# Altium footprint library PcbLib.PcbLib: 25 footprints (part 2 of 2)
Each footprint in its own frame and in the unit in brackets; x right, y up, seen from the top. Pads: shape width x height; smd on the part's side, far side on the other; paste and mask are expansions set on the pad; w line width, h text height; cw(c..) or ccw(c..) is an arc to the next point about the centre after c.
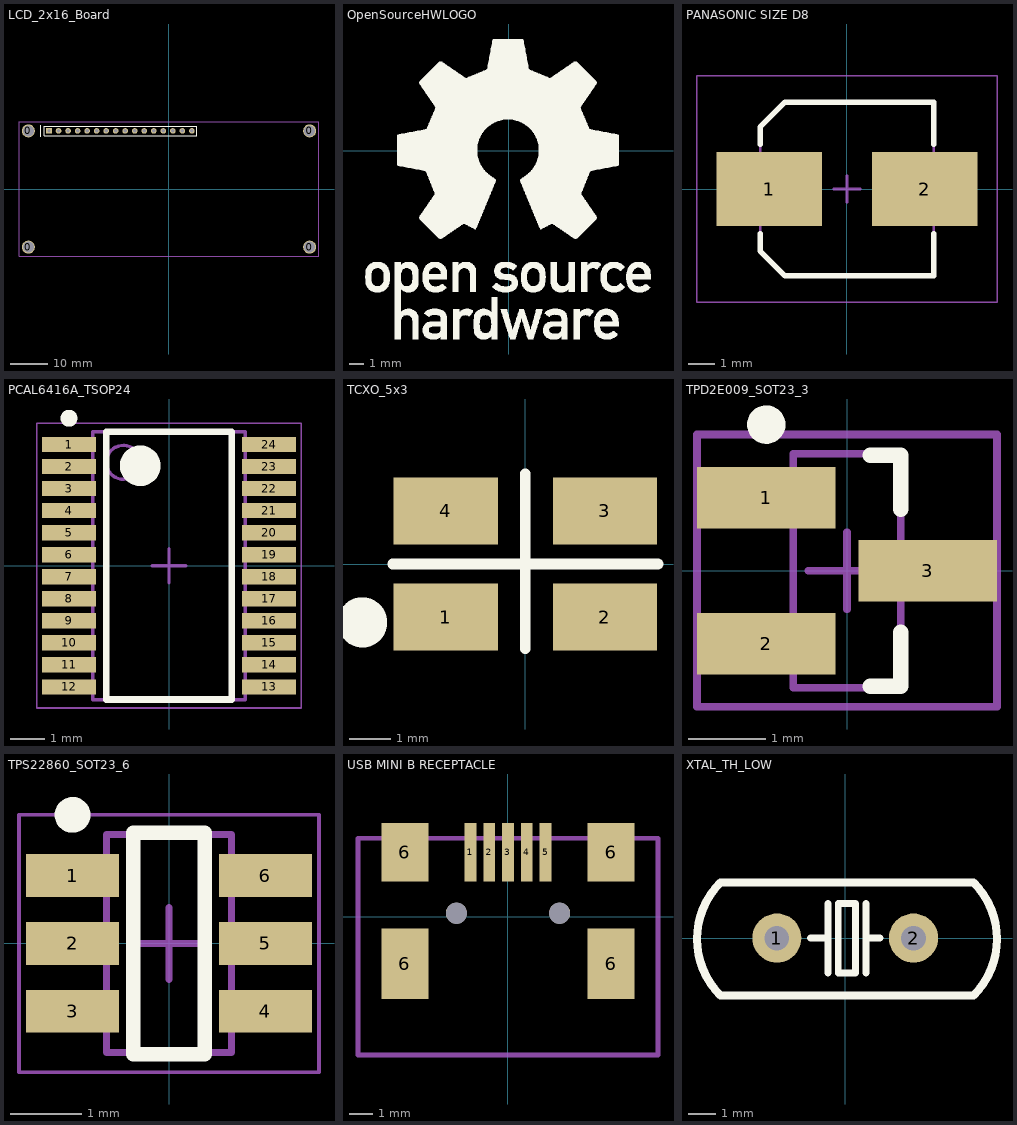
[diagram p1: the footprints below, top view; thin cyan lines are the x and y axes]

## LCD_2x16_Board [mm] "2X16 LCD PCB"
height 12
pads (20):
  round 3.5 hole 2.9: 0(-37.5,-15.5) 0(-37.5,15.5) 0(37.5,-15.5) 0(37.5,15.5)
  rect 1.5x1.5 hole 0.9: 1(-32,15.5)
  round 1.5 hole 0.9: 2(-29.46,15.5) 3(-26.92,15.5) 4(-24.38,15.5) 5(-21.84,15.5) 6(-19.3,15.5) 7(-16.76,15.5) 8(-14.22,15.5) 9(-11.68,15.5) 10(-9.14,15.5) 11(-6.6,15.5) 12(-4.06,15.5) 13(-1.52,15.5) 14(1.02,15.5) 15(3.56,15.5) 16(6.1,15.5)
Top Overlay:
  lines w0.2: -33.27,14.23 7.37,14.23 7.37,16.77 -31.365,16.77 -33.27,16.77 -33.27,14.23
  lines w0.254: -34.2,13.9 -34.2,17
Mechanical 7:
  lines w0.254: -40,-18 40,-18 40,18 -40,18 -40,-18
3D body: height 9.49, standoff -2.38, extent -33.195,14.263 7.595,16.738
3D body: height 22, standoff 3.7, extent -40,-18 40,18

## OpenSourceHWLOGO [mm] "OpenSourceHWLOGO"
Top Overlay:
  drawing of 3317 lines, arcs and shapes, not listed

## PANASONIC SIZE D8 [mm] "Aluminum Electrolytic Capacitor, Body 6,60x6,60x7,70mm, IPC Low Density"
height 7.7
pads (2):
  rect 4x2.8 smd: 1(-2.95,0) 2(2.95,0)
Top Overlay:
  lines w0.2: -3.3,-1.7 -3.3,-2.35 -2.35,-3.3 3.3,-3.3 3.3,-1.7 ; -3.3,1.7 -3.3,2.35 -2.35,3.3 3.3,3.3 3.3,1.7
Mechanical 13:
  lines w0.1: -3.3,-2.35 -3.3,2.35 -2.35,3.3 3.3,3.3 3.3,-3.3 -2.35,-3.3 -3.3,-2.35
Mechanical 15:
  lines w0.05: -5.7,-4.3 5.7,-4.3 5.7,4.3 -5.7,4.3 -5.7,-4.3
  lines w0.1: -0.5,0 0.5,0 ; 0,-0.5 0,0.5
3D body: height 7.7, standoff 0, extent -3.15,-3.15 3.15,3.148
3D body: height 2.57, standoff 0, extent -3.3,-3.3 3.3,3.3

## PCAL6416A_TSOP24 [mm] "TSOP, 24-Leads, Body 7,80x4,40mm, Pitch 0,65mm, IPC Medium Density"
height 1.1
pads (24):
  rect 1.6x0.45 smd: 1(-2.95,3.575) 2(-2.95,2.925) 3(-2.95,2.275) 4(-2.95,1.625) 5(-2.95,0.975) 6(-2.95,0.325) 7(-2.95,-0.325) 8(-2.95,-0.975) 9(-2.95,-1.625) 10(-2.95,-2.275) 11(-2.95,-2.925) 12(-2.95,-3.575) 13(2.95,-3.575) 14(2.95,-2.925) 15(2.95,-2.275) 16(2.95,-1.625) 17(2.95,-0.975) 18(2.95,-0.325) 19(2.95,0.325) 20(2.95,0.975) 21(2.95,1.625) 22(2.95,2.275) 23(2.95,2.925) 24(2.95,3.575)
Top Overlay:
  circle w0.6: c-0.85,2.95 r0.3
  circle w0.25: c-2.95,4.35 r0.125
  lines w0.2: -1.85,-3.95 1.85,-3.95 1.85,3.95 -1.85,3.95 -1.85,-3.95
Mechanical 13:
  circle w0.1: c-1.35,3.05 r0.5
  lines w0.1: -2.25,-3.95 2.25,-3.95 2.25,3.95 -2.25,3.95 -2.25,-3.95
Mechanical 15:
  lines w0.05: -3.9,-4.2 3.9,-4.2 3.9,4.2 -3.9,4.2 -3.9,-4.2
  lines w0.1: -0.5,0 0.5,0 ; 0,-0.5 0,0.5
3D body: height 1.1, standoff 0.1, extent -2.25,-3.95 2.25,3.95

## TCXO_5x3 [mm] "TCXO 5mm x 3.2mm"
height 1.5
pads (4):
  rect 2.5x1.6 smd: 1(-1.905,-1.27) 2(1.905,-1.27) 3(1.905,1.27) 4(-1.905,1.27)
Top Overlay:
  circle w1: c-3.91,-1.397 r0.1
  lines w0.254: -3.175,0 3.175,0 ; 0,-2.032 0,2.159
3D body: height 1.5, standoff 0.1, extent -2.54,-1.587 2.54,1.588

## TPD2E009_SOT23_3 [mm] "SOT23, 3-Leads, Body 3,0x2,6mm (max), Pitch 0,95mm, IPC Medium Density"
height 1.12
pads (3):
  rect 1.8x0.8 smd: 1(-1.05,0.95) 2(-1.05,-0.95) 3(1.05,0)
Top Overlay:
  circle w0.25: c-1.05,1.9 r0.125
  lines w0.2: 0.3,-1.5 0.7,-1.5 0.7,-0.8 ; 0.3,1.5 0.7,1.5 0.7,0.8
Mechanical 13:
  lines w0.1: -0.7,-1.52 0.7,-1.52 0.7,1.52 -0.7,1.52 -0.7,-1.52
Mechanical 15:
  lines w0.1: -0.5,0 0.5,0 ; 0,-0.5 0,0.5 ; -1.95,-1.77 1.95,-1.77 1.95,1.77 -1.95,1.77 -1.95,-1.77
3D body: height 1.12, standoff 0.1, extent -0.7,-1.52 0.7,1.52

## TPS22860_SOT23_6 [mm] "SOT23, 6-Leads, Body 2,90x2,80mm, Pitch 0,95mm, IPC Medium Density"
height 1.45
pads (6):
  rect 1.3x0.6 smd: 1(-1.35,0.95) 2(-1.35,0) 3(-1.35,-0.95) 4(1.35,-0.95) 5(1.35,0) 6(1.35,0.95)
Top Overlay:
  circle w0.25: c-1.35,1.8 r0.125
  lines w0.2: -0.5,-1.55 0.5,-1.55 0.5,1.55 -0.5,1.55 -0.5,-1.55
Mechanical 13:
  lines w0.1: -0.875,-1.525 -0.875,1.525 0.875,1.525 0.875,-1.525 -0.875,-1.525
Mechanical 15:
  lines w0.05: -2.1,-1.8 -2.1,1.8 2.1,1.8 2.1,-1.8 -2.1,-1.8
  lines w0.1: -0.5,0 0.5,0 ; 0,-0.5 0,0.5
3D body: height 1.45, standoff 0.1, extent -0.875,-1.525 0.875,1.525

## USB MINI B RECEPTACLE [mm] "popravek"
pads (11):
  rect 0.5x2.5 smd: 1(-1.6,2.75) 2(-0.8,2.75) 3(0,2.75) 4(0.8,2.75) 5(1.6,2.75)
  rect 2x3 smd: 6(-4.4,-2) 6(4.4,-2)
  rect 2x2.5 smd: 6(-4.4,2.75) 6(4.4,2.75)
  round 0.9 hole 0.9: ""(-2.2,0.15) ""(2.2,0.15)
Mechanical 15:
  lines w0.2: -6.4,-5.9 6.4,-5.9 6.4,3.35 -6.4,3.35 -6.4,-5.9
3D body: height 4, standoff -0.95, extent -4.95,-5.75 4.95,3.25

## XTAL_TH_LOW [mm] "XTAL TH low profile"
height 3.5
pads (2):
  round 1.8 hole 0.9: 1(-2.5,0) 2(2.5,0)
Top Overlay:
  lines w0.254: -1.27,0 -0.635,0 -0.635,1.27 -0.635,-1.27 ; 0.762,-1.27 0.762,1.27 ; 0.762,0 1.27,0 ; -0.254,1.27 -0.254,-1.27 0.381,-1.27 0.381,1.27 ; -0.254,1.27 0.381,1.27 ; -0.254,1.27 0.381,1.27
  lines w0.3: -4.566,-2.1 cw(c-2.5,-0.034) -4.566,2.032 4.699,2.032 cw(c2.633,-0.034) 4.699,-2.1 -4.566,-2.1
3D body: height 3, standoff 1, extent -5.461,-2.159 5.588,2.032